# EAGLE library part AD9283 (library Labor)
8-Bit, 50 MSPS/80 MSPS/100 MSPS 3 V A/D Converter FEATURES 8-Bit, 50, 80, and 100 MSPS ADC Low Power: 90 mW at 100 MSPS On-Chip Reference and Track/Hold 475 MHz Analog Bandwidth SNR = 46.5 dB @ 41 MHz at 100 MSPS 1 V p-p Analog Input Range Single 3.0 V Supply Operation (2.7 V?3.6 V) Power-Down Mode: 4.2 mW
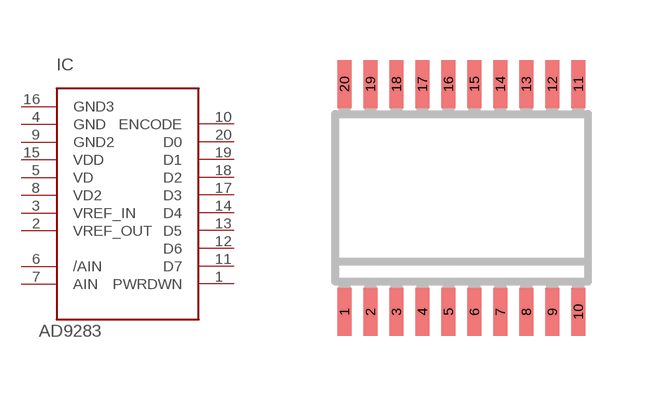
[diagram p8: symbol with the pads of SSOP20; footprint SSOP20]

Designator prefix IC

## AD9283  [SSOP20]
1  PWRDWN  in
2  VREF_OUT  out
3  VREF_IN  in
4  GND  pwr
5  VD  pwr
6  /AIN  in
7  AIN  in
8  VD2  pwr
9  GND2  pwr
10  ENCODE  in
11  D7  out
12  D6  out
13  D5  out
14  D4  out
15  VDD  pwr
16  GND3  pwr
17  D3  out
18  D2  out
19  D1  out
20  D0  out

## Footprint SSOP20 (pad centres in mm)
plastic shrink small outline package 20 leads; body width 4.4 mm SOT266-1 Source: http://www.semiconductors.philips.com/acrobat_download/datasheets/PCF8574_4.pdf
smd 0.35 x 1.2: 1 -2.925,-2.85; 2 -2.275,-2.85; 3 -1.625,-2.85; 4 -0.975,-2.85; 5 -0.325,-2.85; 6 0.325,-2.85; 7 0.975,-2.85; 8 1.625,-2.85; 9 2.275,-2.85; 10 2.925,-2.85; 11 2.925,2.85; 12 2.275,2.85; 13 1.625,2.85; 14 0.975,2.85; 15 0.325,2.85; 16 -0.325,2.85; 17 -0.975,2.85; 18 -1.625,2.85; 19 -2.275,2.85; 20 -2.925,2.85